# EAGLE library part DIL14 (library untitled)
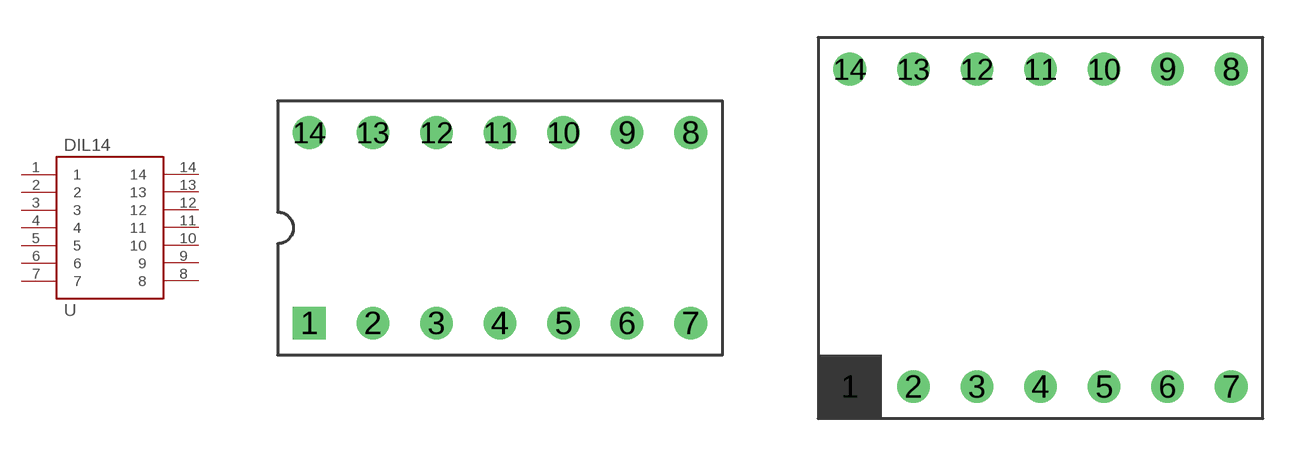
[diagram p12: symbol with the pads of DIP14; footprints DIP14, DIP14W]

Designator prefix -

## DIL14PTH  [DIP14]
1  1
2  2
3  3
4  4
5  5
6  6
7  7
8  8
9  9
10  10
11  11
12  12
13  13
14  14

## DIL14PTHW  [DIP14W]
Pads as for DIP14

## Footprint DIP14 (pad centres in mm)
drill 0.8 square: 1 -7.62,-3.81
drill 0.8 round: 2 -5.08,-3.81; 3 -2.54,-3.81; 4 0,-3.81; 5 2.54,-3.81; 6 5.08,-3.81; 7 7.62,-3.81; 8 7.62,3.81; 9 5.08,3.81; 10 2.54,3.81; 11 0,3.81; 12 -2.54,3.81; 13 -5.08,3.81; 14 -7.62,3.81

## Footprint DIP14W (pad centres in mm)
drill 0.8 square: 1 -7.62,-6.35
drill 0.8 round: 2 -5.08,-6.35; 3 -2.54,-6.35; 4 0,-6.35; 5 2.54,-6.35; 6 5.08,-6.35; 7 7.62,-6.35; 8 7.62,6.35; 9 5.08,6.35; 10 2.54,6.35; 11 0,6.35; 12 -2.54,6.35; 13 -5.08,6.35; 14 -7.62,6.35